# Altium footprint library PCB_Lib.PcbLib: 286 footprints (part 5 of 18)
Each footprint in its own frame and in the unit in brackets; x right, y up, seen from the top. Pads: shape width x height; smd on the part's side, far side on the other; paste and mask are expansions set on the pad; w line width, h text height; cw(c..) or ccw(c..) is an arc to the next point about the centre after c.
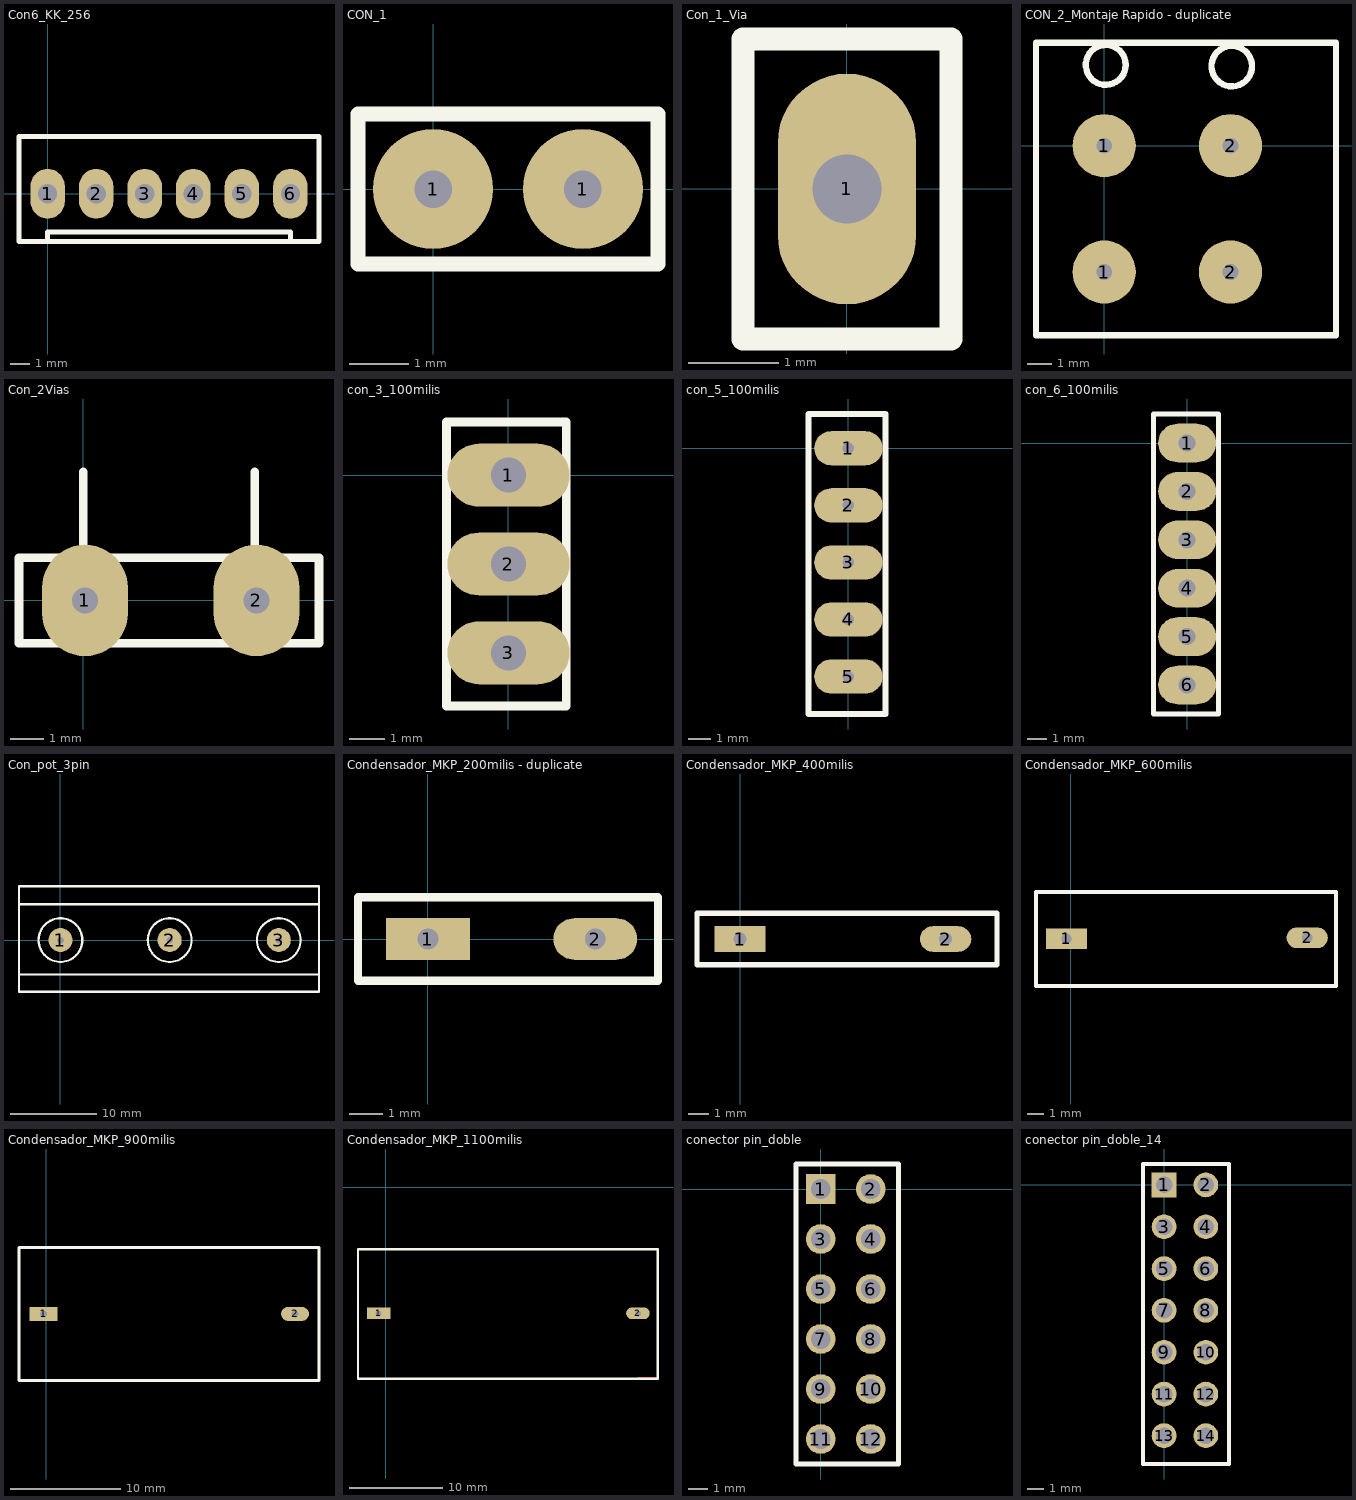
[diagram p4: the footprints below, top view; thin cyan lines are the x and y axes]

## Con6_KK_256 [mm]
height 2.54
pads (6):
  oval 1.8x2.6 hole 1: 1(0,0) 2(2.54,0) 3(5.08,0) 4(7.62,0) 5(10.16,0) 6(12.7,0)
Top Overlay:
  lines w0.254: 0,-2.5 0,-2 12.7,-2 12.7,-2.5 ; -1.5,-2.5 -1.5,3 14.2,3 14.2,-2.5 -1.5,-2.5

## CON_1 [mil]
pads (2):
  round 80 hole 25: 1(0,0) 1(100,0)
Top Overlay:
  lines w10: -50,-50 -50,50 150,50 150,-50 -50,-50

## Con_1_Via [mil]
height 100
pads (1):
  oval 60x100 hole 30: 1(0,0)
Top Overlay:
  lines w10: -45,-65 -45,65 45,65 45,-65 -45,-65

## CON_2_Montaje Rapido - duplicate [mil]
pads (4):
  round 100 hole 25: 1(0,-200) 1(0,0) 2(200,-200) 2(200,0)
Top Overlay:
  circle w10: c201.94,126 r32.06
  circle w10: c2.42,128 r31.58
  lines w10: -92,163 367,163 367,-23 ; 100,163 -108,163 -108,93 -108,-300 367,-300 367,100

## Con_2Vias [mil] "Conector 2 vias"
pads (2):
  oval 100x130 hole 30: 1(1.97,0) 2(201.97,0)
Top Overlay:
  lines w10: 0,50 0,150 ; 200,50 200,150 ; -75,-50 -75,50 275,50 275,-50 -75,-50

## con_3_100milis [mm]
pads (3):
  oval 3.5x1.8 hole 1: 1(0,0) 2(0,-2.54) 3(0,-5.08)
Top Overlay:
  lines w0.254: -1.778,-6.604 -1.778,1.524 1.143,1.524 1.651,1.524 1.651,-6.604 -1.778,-6.604

## con_5_100milis [mil]
pads (5):
  oval 120x60 hole 20: 1(0,0) 2(0,-100) 3(0,-200) 4(0,-300) 5(0,-400)
Top Overlay:
  lines w10: -70,-465.55 -70,60 45,60 65,60 65,-465.55 -70,-465.55

## con_6_100milis [mil]
pads (6):
  oval 120x80 hole 35: 1(0,0) 2(0,-100) 3(0,-200) 4(0,-300) 5(0,-400) 6(0,-500)
Top Overlay:
  lines w10: -70,-560 -70,60 45,60 65,60 65,-560 -70,-560

## Con_pot_3pin [mil]
pads (3):
  round 110 hole 30: 1(0,0) 2(500,0) 3(1000,0)
Top Overlay:
  circle w10: c1000,0 r100
  circle w10: c500,0 r100
  circle w10: c0,0 r100
  lines w10: -190,-157 1184,-157 ; -190,164 1184,164 ; -190,-237 1184,-237 1184,247 -190,247 -190,-237

## Condensador_MKP_200milis - duplicate [mil] "10nF 1600v"
height 590.55
pads (2):
  rect 100x50 hole 25: 1(0,0)
  oval 100x50 hole 25: 2(200,0)
Top Overlay:
  lines w10: -83.66,-50 -83.66,50 0,50 75.1,50 116.24,50 275,50 275,-50 -83.66,-50

## Condensador_MKP_400milis [mil] "10nF 1600v"
height 590.55
pads (2):
  rect 100x50 hole 25: 1(0,650)
  oval 100x50 hole 25: 2(400,650)
Top Overlay:
  lines w10: -83.66,600 -83.66,700 500,700 500,600 -83.66,600

## Condensador_MKP_600milis [mm] "10nF 1600v"
height 15
pads (2):
  rect 2.54x1.27 hole 0.635: 1(-0.25,16.025)
  oval 2.54x1.27 hole 0.635: 2(14.55,16.075)
Top Overlay:
  lines w0.254: -2.125,13.1 16.325,13.1 16.325,18.9 -2.125,18.9 -2.125,13.1

## Condensador_MKP_900milis [mm] "10nF 2000v"
height 22.5
pads (2):
  rect 2.54x1.27 hole 0.635: 1(-0.25,16.025)
  oval 2.54x1.27 hole 0.635: 2(22.575,16.025)
Top Overlay:
  lines w0.254: -2.475,9.975 -2.475,22.05 24.75,22.05 24.75,9.975 -2.475,9.975

## Condensador_MKP_1100milis [mm] "2u2 22u 1u"
height 28
pads (2):
  rect 2.54x1.27 hole 0.635: 1(-0.775,-13.6)
  oval 2.54x1.27 hole 0.635: 2(27.165,-13.6)
Top Layer:
  lines w0.254: 27.25,-20.6 29.325,-20.6
Top Overlay:
  lines w0.254: -3,-20.65 29.3,-20.65 29.3,-6.7 -3,-6.7 -3,-20.65

## conector pin_doble [mm]
pads (12):
  rect 1.5x1.5 hole 1: 1(0,0)
  round 1.5 hole 1: 2(2.54,0) 3(0,-2.54) 4(2.54,-2.54) 5(0,-5.08) 6(2.54,-5.08) 7(0,-7.62) 8(2.54,-7.62) 9(0,-10.16) 10(2.54,-10.16) 11(0,-12.7) 12(2.54,-12.7)
Top Overlay:
  lines w0.254: 0.635,1.27 3.937,1.27 3.937,-13.97 -1.27,-13.97 -1.27,1.27 1.905,1.27

## conector pin_doble_14 [mm]
pads (14):
  rect 1.5x1.5 hole 1: 1(0,0)
  round 1.5 hole 1: 2(2.54,0) 3(0,-2.54) 4(2.54,-2.54) 5(0,-5.08) 6(2.54,-5.08) 7(0,-7.62) 8(2.54,-7.62) 9(0,-10.16) 10(2.54,-10.16) 11(0,-12.7) 12(2.54,-12.7) 13(0,-15.225) 14(2.54,-15.225)
Top Overlay:
  lines w0.254: 0.635,1.27 3.937,1.27 3.937,-16.95 -1.27,-16.95 -1.27,1.27 1.905,1.27